# Altium integrated library Linear Technology Power Management LDO Linear Regulators.IntLib: 2339 symbols (part 3 of 131)
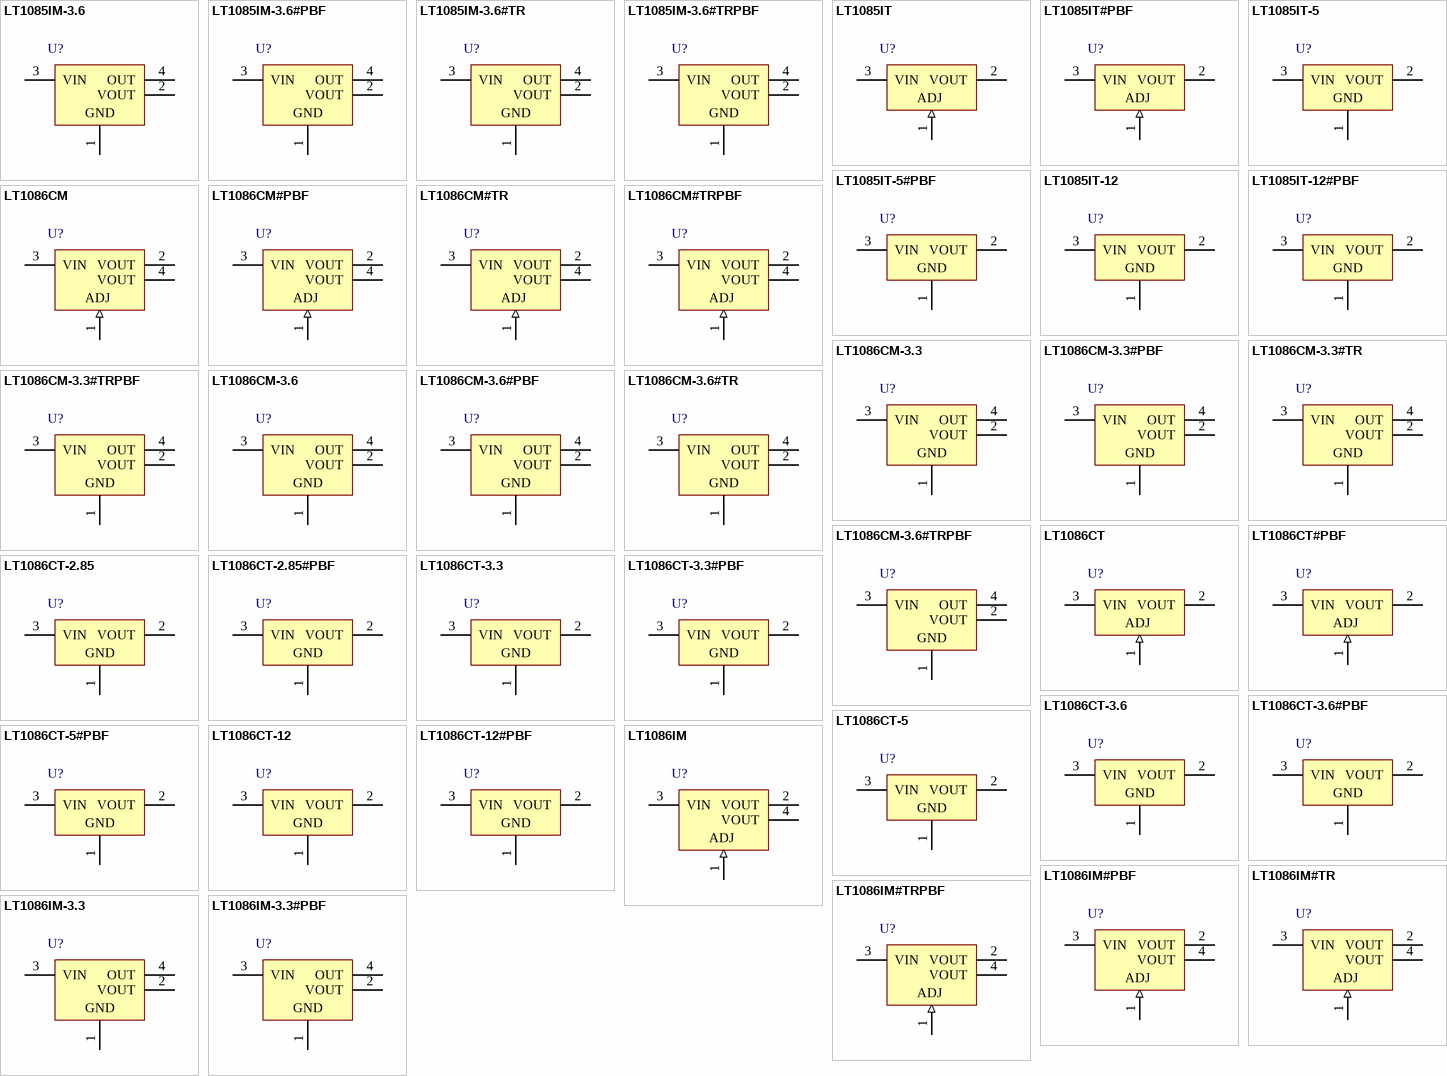
[diagram p71: symbols LT1085IM-3.6 to LT1086IM-3.3#PBF]

## LT1086IM-3.3#PBF
designator U?
1.5 A Low Dropout Positive Regulator, 2.55 to 25 V Vin, 3.3 V Vout, 3-pin DPAK (M-3), -40 to 150 degC, Pb-Free; Manufacturer: Linear Technology; PartNumber: LT1086IM-3.3#PBF; Discrete Pass Element: no; Dropout Voltage(V): 1.3; Iout(mA): 1500; Isupply(mA): 5; Number of Outputs: 1; Output Voltage: 3.3 V; PSRR(dB): 72; Vin Max(V): 25; Vin Min(V): 2.55; DatasheetVersion: Rev. F; PackageVersion: Rev. F, 05/2012; PackageReference: M-3; PackageDescription: 3-Pin Plastic DD Pak, Body 10.2235 x 8.89 mm, Pitch 2.54 mm; Supplier 1: Digi-Key; Supplier Part Number 1: LT1086IM-3.3#PBF-ND; Supplier 2: Farnell; Supplier Part Number 2: 1663352; Supplier 3: Newark; Supplier Part Number 3: 57M1559; RoHS: TRUE; Mounting Technology: Surface Mount; ComponentLink1Description: Manufacturer URL; ComponentLink1URL: http://www.linear.com/; ComponentLink2Description: Datasheet; ComponentLink2URL: http://cds.linear.com/docs/en/datasheet/1086ffs.pdf; ComponentLink3Description: Package Specification; ComponentLink3URL: http://cds.linear.com/docs/en/packaging/05081460_F_M.pdf
footprint LT-M-3_N (DPAK, 3-Leads, Body 10.55x9.4mm, Pitch 2.54mm, IPC Medium Density)
footprint LT-M-3_L (DPAK, 3-Leads, Body 10.55x9.4mm, Pitch 2.54mm, IPC High Density)
footprint LT-M-3_M (DPAK, 3-Leads, Body 10.55x9.4mm, Pitch 2.54mm, IPC Low Density)
pins: 1 GND (power), 2 VOUT (power), 3 VIN (power), 4 OUT (power)

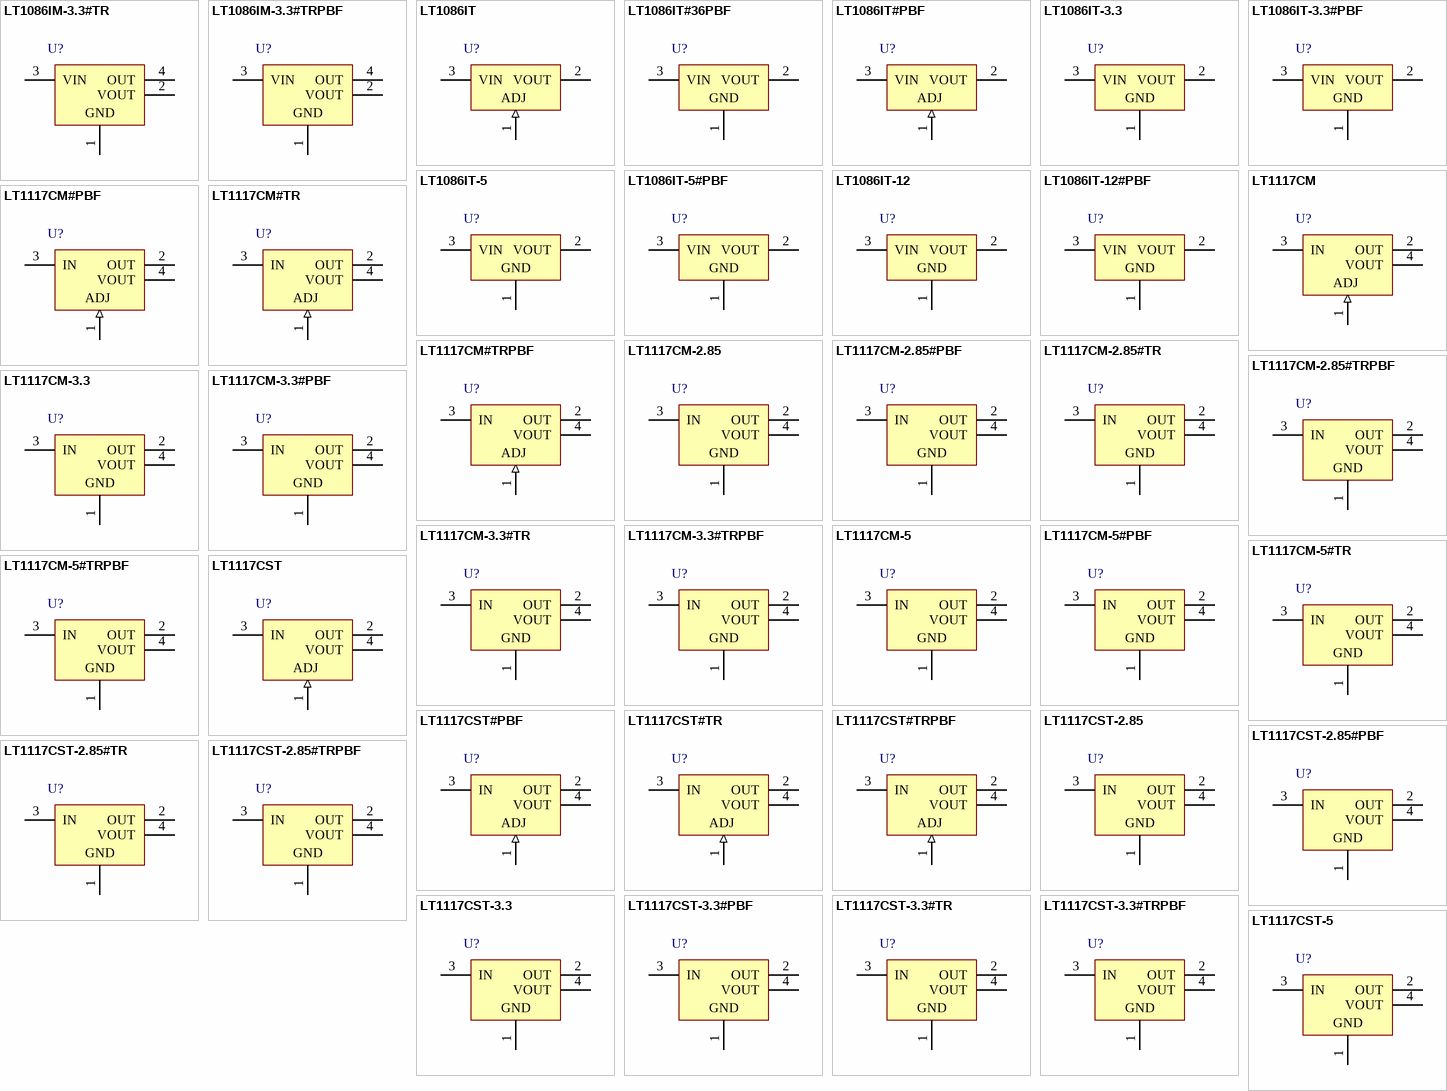
[diagram p2: symbols LT1086IM-3.3#TR to LT1117CST-5]

## LT1086IM-3.3#TR
designator U?
1.5 A Low Dropout Positive Regulator, 2.55 to 25 V Vin, 3.3 V Vout, 3-pin DPAK (M-3), -40 to 150 degC, Tape and Reel; Manufacturer: Linear Technology; PartNumber: LT1086IM-3.3#TR; Discrete Pass Element: no; Dropout Voltage(V): 1.3; Iout(mA): 1500; Isupply(mA): 5; Number of Outputs: 1; Output Voltage: 3.3 V; PSRR(dB): 72; Vin Max(V): 25; Vin Min(V): 2.55; DatasheetVersion: Rev. F; PackageVersion: Rev. F, 05/2012; PackageReference: M-3; PackageDescription: 3-Pin Plastic DD Pak, Body 10.2235 x 8.89 mm, Pitch 2.54 mm; Supplier 1: Digi-Key; Supplier Part Number 1: LT1086IM-3.3#TR-ND; Supplier 2: Newark; Supplier Part Number 2: 57M1560; Packing: Tape and Reel; RoHS: FALSE; Mounting Technology: Surface Mount; ComponentLink1Description: Manufacturer URL; ComponentLink1URL: http://www.linear.com/; ComponentLink2Description: Datasheet; ComponentLink2URL: http://cds.linear.com/docs/en/datasheet/1086ffs.pdf; ComponentLink3Description: Package Specification; ComponentLink3URL: http://cds.linear.com/docs/en/packaging/05081460_F_M.pdf
footprint LT-M-3_N (DPAK, 3-Leads, Body 10.55x9.4mm, Pitch 2.54mm, IPC Medium Density)
footprint LT-M-3_L (DPAK, 3-Leads, Body 10.55x9.4mm, Pitch 2.54mm, IPC High Density)
footprint LT-M-3_M (DPAK, 3-Leads, Body 10.55x9.4mm, Pitch 2.54mm, IPC Low Density)
pins: 1 GND (power), 2 VOUT (power), 3 VIN (power), 4 OUT (power)

## LT1086IM-3.3#TRPBF
designator U?
1.5 A Low Dropout Positive Regulator, 2.55 to 25 V Vin, 3.3 V Vout, 3-pin DPAK (M-3), -40 to 150 degC, Pb-Free, Tape and Reel; Manufacturer: Linear Technology; PartNumber: LT1086IM-3.3#TRPBF; Discrete Pass Element: no; Dropout Voltage(V): 1.3; Iout(mA): 1500; Isupply(mA): 5; Number of Outputs: 1; Output Voltage: 3.3 V; PSRR(dB): 72; Vin Max(V): 25; Vin Min(V): 2.55; DatasheetVersion: Rev. F; PackageVersion: Rev. F, 05/2012; PackageReference: M-3; PackageDescription: 3-Pin Plastic DD Pak, Body 10.2235 x 8.89 mm, Pitch 2.54 mm; Supplier 1: Digi-Key; Supplier Part Number 1: LT1086IM-3.3#TRPBF-ND; Supplier 2: Newark; Supplier Part Number 2: 57M1561; Packing: Tape and Reel; RoHS: TRUE; Mounting Technology: Surface Mount; ComponentLink1Description: Manufacturer URL; ComponentLink1URL: http://www.linear.com/; ComponentLink2Description: Datasheet; ComponentLink2URL: http://cds.linear.com/docs/en/datasheet/1086ffs.pdf; ComponentLink3Description: Package Specification; ComponentLink3URL: http://cds.linear.com/docs/en/packaging/05081460_F_M.pdf
footprint LT-M-3_N (DPAK, 3-Leads, Body 10.55x9.4mm, Pitch 2.54mm, IPC Medium Density)
footprint LT-M-3_L (DPAK, 3-Leads, Body 10.55x9.4mm, Pitch 2.54mm, IPC High Density)
footprint LT-M-3_M (DPAK, 3-Leads, Body 10.55x9.4mm, Pitch 2.54mm, IPC Low Density)
pins: 1 GND (power), 2 VOUT (power), 3 VIN (power), 4 OUT (power)

## LT1086IT
designator U?
1.5 A Low Dropout Positive Regulator, 2.55 to 25 V Vin, Adjustable Vout, 3-pin FM (T-3), -40 to 150 degC; Manufacturer: Linear Technology; PartNumber: LT1086IT; Discrete Pass Element: no; Dropout Voltage(V): 1.3; Iout(mA): 1500; Isupply(mA): 5; Number of Outputs: 1; Output Voltage: Adj; PSRR(dB): 75; Vin Max(V): 25; Vin Min(V): 2.55; Vout Max(V): 23.5; Vout Min(V): 1.25; DatasheetVersion: Rev. F; PackageVersion: Jun-10; PackageReference: T-3; PackageDescription: 3-Pin Plastic TO-220, Body 10.2235 x 4.3815 mm, Pitch 2.54 mm; Supplier 1: Digi-Key; Supplier Part Number 1: LT1086IT-ND; RoHS: FALSE; Mounting Technology: Through Hole; ComponentLink1Description: Manufacturer URL; ComponentLink1URL: http://www.linear.com/; ComponentLink2Description: Datasheet; ComponentLink2URL: http://cds.linear.com/docs/en/datasheet/1086ffs.pdf; ComponentLink3Description: Package Specification; ComponentLink3URL: http://cds.linear.com/docs/en/packaging/TO-220_3_05-08-1420.pdf
footprint LT-T-3 (T, 3-Leads, Body 10.55x4.6mm, Pitch 2.54mm)
pins: 1 ADJ (in), 2 VOUT (power), 3 VIN (power)

## LT1086IT#36PBF
designator U?
1.5 A Low Dropout Positive Regulator, 2.55 to 25 V Vin, Adjustable Vout, 3-pin FM (T-3), -40 to 150 degC, Pb-Free; Manufacturer: Linear Technology; PartNumber: LT1086IT#36PBF; Discrete Pass Element: no; Dropout Voltage(V): 1.3; Iout(mA): 1500; Isupply(mA): 5; Number of Outputs: 1; Output Voltage: Adj; PSRR(dB): 75; Vin Max(V): 25; Vin Min(V): 2.55; Vout Max(V): 23.5; Vout Min(V): 1.25; DatasheetVersion: Rev. F; PackageVersion: Jun-10; PackageReference: T-3; PackageDescription: 3-Pin Plastic TO-220, Body 10.2235 x 4.3815 mm, Pitch 2.54 mm; Supplier 1: Digi-Key; Supplier Part Number 1: LT1086IT#36PBF-ND; RoHS: TRUE; Mounting Technology: Through Hole; ComponentLink1Description: Manufacturer URL; ComponentLink1URL: http://www.linear.com/; ComponentLink2Description: Datasheet; ComponentLink2URL: http://cds.linear.com/docs/en/datasheet/1086ffs.pdf; ComponentLink3Description: Package Specification; ComponentLink3URL: http://cds.linear.com/docs/en/packaging/TO-220_3_05-08-1420.pdf
footprint LT-T-3 (T, 3-Leads, Body 10.55x4.6mm, Pitch 2.54mm)
pins: 1 GND (power), 2 VOUT (power), 3 VIN (power)

## LT1086IT#PBF
designator U?
1.5 A Low Dropout Positive Regulator, 2.55 to 25 V Vin, Adjustable Vout, 3-pin FM (T-3), -40 to 150 degC, Pb-Free; Manufacturer: Linear Technology; PartNumber: LT1086IT#PBF; Discrete Pass Element: no; Dropout Voltage(V): 1.3; Iout(mA): 1500; Isupply(mA): 5; Number of Outputs: 1; Output Voltage: Adj; PSRR(dB): 75; Vin Max(V): 25; Vin Min(V): 2.55; Vout Max(V): 23.5; Vout Min(V): 1.25; DatasheetVersion: Rev. F; PackageVersion: Jun-10; PackageReference: T-3; PackageDescription: 3-Pin Plastic TO-220, Body 10.2235 x 4.3815 mm, Pitch 2.54 mm; Supplier 1: Digi-Key; Supplier Part Number 1: LT1086IT#PBF-ND; Supplier 2: Farnell; Supplier Part Number 2: 1500501; Supplier 3: Newark; Supplier Part Number 3: 57M1572; RoHS: TRUE; Mounting Technology: Through Hole; ComponentLink1Description: Manufacturer URL; ComponentLink1URL: http://www.linear.com/; ComponentLink2Description: Datasheet; ComponentLink2URL: http://cds.linear.com/docs/en/datasheet/1086ffs.pdf; ComponentLink3Description: Package Specification; ComponentLink3URL: http://cds.linear.com/docs/en/packaging/TO-220_3_05-08-1420.pdf
footprint LT-T-3 (T, 3-Leads, Body 10.55x4.6mm, Pitch 2.54mm)
pins: 1 ADJ (in), 2 VOUT (power), 3 VIN (power)

## LT1086IT-3.3
designator U?
1.5 A Low Dropout Positive Regulator, 2.55 to 25 V Vin, 3.3 V Vout, 3-pin FM (T-3), -40 to 150 degC; Manufacturer: Linear Technology; PartNumber: LT1086IT-3.3; Discrete Pass Element: no; Dropout Voltage(V): 1.3; Iout(mA): 1500; Isupply(mA): 5; Number of Outputs: 1; Output Voltage: 3.3 V; PSRR(dB): 72; Vin Max(V): 25; Vin Min(V): 2.55; DatasheetVersion: Rev. F; PackageVersion: Jun-10; PackageReference: T-3; PackageDescription: 3-Pin Plastic TO-220, Body 10.2235 x 4.3815 mm, Pitch 2.54 mm; Supplier 1: Digi-Key; Supplier Part Number 1: LT1086IT-3.3-ND; RoHS: FALSE; Mounting Technology: Through Hole; ComponentLink1Description: Manufacturer URL; ComponentLink1URL: http://www.linear.com/; ComponentLink2Description: Datasheet; ComponentLink2URL: http://cds.linear.com/docs/en/datasheet/1086ffs.pdf; ComponentLink3Description: Package Specification; ComponentLink3URL: http://cds.linear.com/docs/en/packaging/TO-220_3_05-08-1420.pdf
footprint LT-T-3 (T, 3-Leads, Body 10.55x4.6mm, Pitch 2.54mm)
pins: 1 GND (power), 2 VOUT (power), 3 VIN (power)

## LT1086IT-3.3#PBF
designator U?
1.5 A Low Dropout Positive Regulator, 2.55 to 25 V Vin, 3.3 V Vout, 3-pin FM (T-3), -40 to 150 degC, Pb-Free; Manufacturer: Linear Technology; PartNumber: LT1086IT-3.3#PBF; Discrete Pass Element: no; Dropout Voltage(V): 1.3; Iout(mA): 1500; Isupply(mA): 5; Number of Outputs: 1; Output Voltage: 3.3 V; PSRR(dB): 72; Vin Max(V): 25; Vin Min(V): 2.55; DatasheetVersion: Rev. F; PackageVersion: Jun-10; PackageReference: T-3; PackageDescription: 3-Pin Plastic TO-220, Body 10.2235 x 4.3815 mm, Pitch 2.54 mm; Supplier 1: Digi-Key; Supplier Part Number 1: LT1086IT-3.3#PBF-ND; RoHS: TRUE; Mounting Technology: Through Hole; ComponentLink1Description: Manufacturer URL; ComponentLink1URL: http://www.linear.com/; ComponentLink2Description: Datasheet; ComponentLink2URL: http://cds.linear.com/docs/en/datasheet/1086ffs.pdf; ComponentLink3Description: Package Specification; ComponentLink3URL: http://cds.linear.com/docs/en/packaging/TO-220_3_05-08-1420.pdf
footprint LT-T-3 (T, 3-Leads, Body 10.55x4.6mm, Pitch 2.54mm)
pins: 1 GND (power), 2 VOUT (power), 3 VIN (power)

## LT1086IT-5
designator U?
1.5 A Low Dropout Positive Regulator, 2.55 to 25 V Vin, 5 V Vout, 3-pin FM (T-3), -40 to 150 degC; Manufacturer: Linear Technology; PartNumber: LT1086IT-5; Discrete Pass Element: no; Dropout Voltage(V): 1.3; Iout(mA): 1500; Isupply(mA): 5; Number of Outputs: 1; Output Voltage: 5 V; PSRR(dB): 68; Vin Max(V): 25; Vin Min(V): 2.55; DatasheetVersion: Rev. F; PackageVersion: Jun-10; PackageReference: T-3; PackageDescription: 3-Pin Plastic TO-220, Body 10.2235 x 4.3815 mm, Pitch 2.54 mm; Supplier 1: Digi-Key; Supplier Part Number 1: LT1086IT-5-ND; Supplier 2: Newark; Supplier Part Number 2: 57M1570; RoHS: FALSE; Mounting Technology: Through Hole; ComponentLink1Description: Manufacturer URL; ComponentLink1URL: http://www.linear.com/; ComponentLink2Description: Datasheet; ComponentLink2URL: http://cds.linear.com/docs/en/datasheet/1086ffs.pdf; ComponentLink3Description: Package Specification; ComponentLink3URL: http://cds.linear.com/docs/en/packaging/TO-220_3_05-08-1420.pdf
footprint LT-T-3 (T, 3-Leads, Body 10.55x4.6mm, Pitch 2.54mm)
pins: 1 GND (power), 2 VOUT (power), 3 VIN (power)

## LT1086IT-5#PBF
designator U?
1.5 A Low Dropout Positive Regulator, 2.55 to 25 V Vin, 5 V Vout, 3-pin FM (T-3), -40 to 150 degC, Pb-Free; Manufacturer: Linear Technology; PartNumber: LT1086IT-5#PBF; Discrete Pass Element: no; Dropout Voltage(V): 1.3; Iout(mA): 1500; Isupply(mA): 5; Number of Outputs: 1; Output Voltage: 5 V; PSRR(dB): 68; Vin Max(V): 25; Vin Min(V): 2.55; DatasheetVersion: Rev. F; PackageVersion: Jun-10; PackageReference: T-3; PackageDescription: 3-Pin Plastic TO-220, Body 10.2235 x 4.3815 mm, Pitch 2.54 mm; Supplier 1: Digi-Key; Supplier Part Number 1: LT1086IT-5#PBF-ND; Supplier 2: Newark; Supplier Part Number 2: 57M1571; RoHS: TRUE; Mounting Technology: Through Hole; ComponentLink1Description: Manufacturer URL; ComponentLink1URL: http://www.linear.com/; ComponentLink2Description: Datasheet; ComponentLink2URL: http://cds.linear.com/docs/en/datasheet/1086ffs.pdf; ComponentLink3Description: Package Specification; ComponentLink3URL: http://cds.linear.com/docs/en/packaging/TO-220_3_05-08-1420.pdf
footprint LT-T-3 (T, 3-Leads, Body 10.55x4.6mm, Pitch 2.54mm)
pins: 1 GND (power), 2 VOUT (power), 3 VIN (power)

## LT1086IT-12
designator U?
1.5 A Low Dropout Positive Regulator, 2.55 to 25 V Vin, 12 V Vout, 3-pin FM (T-3), -40 to 150 degC; Manufacturer: Linear Technology; PartNumber: LT1086IT-12; Discrete Pass Element: no; Dropout Voltage(V): 1.3; Iout(mA): 1500; Isupply(mA): 5; Number of Outputs: 1; Output Voltage: 12 V; PSRR(dB): 60; Vin Max(V): 25; Vin Min(V): 2.55; DatasheetVersion: Rev. F; PackageVersion: Jun-10; PackageReference: T-3; PackageDescription: 3-Pin Plastic TO-220, Body 10.2235 x 4.3815 mm, Pitch 2.54 mm; Supplier 1: Digi-Key; Supplier Part Number 1: LT1086IT-12-ND; Supplier 2: Newark; Supplier Part Number 2: 57M1566; RoHS: FALSE; Mounting Technology: Through Hole; ComponentLink1Description: Manufacturer URL; ComponentLink1URL: http://www.linear.com/; ComponentLink2Description: Datasheet; ComponentLink2URL: http://cds.linear.com/docs/en/datasheet/1086ffs.pdf; ComponentLink3Description: Package Specification; ComponentLink3URL: http://cds.linear.com/docs/en/packaging/TO-220_3_05-08-1420.pdf
footprint LT-T-3 (T, 3-Leads, Body 10.55x4.6mm, Pitch 2.54mm)
pins: 1 GND (power), 2 VOUT (power), 3 VIN (power)

## LT1086IT-12#PBF
designator U?
1.5 A Low Dropout Positive Regulator, 2.55 to 25 V Vin, 12 V Vout, 3-pin FM (T-3), -40 to 150 degC, Pb-Free; Manufacturer: Linear Technology; PartNumber: LT1086IT-12#PBF; Discrete Pass Element: no; Dropout Voltage(V): 1.3; Iout(mA): 1500; Isupply(mA): 5; Number of Outputs: 1; Output Voltage: 12 V; PSRR(dB): 60; Vin Max(V): 25; Vin Min(V): 2.55; DatasheetVersion: Rev. F; PackageVersion: Jun-10; PackageReference: T-3; PackageDescription: 3-Pin Plastic TO-220, Body 10.2235 x 4.3815 mm, Pitch 2.54 mm; Supplier 1: Digi-Key; Supplier Part Number 1: LT1086IT-12#PBF-ND; Supplier 2: Newark; Supplier Part Number 2: 57M1567; RoHS: TRUE; Mounting Technology: Through Hole; ComponentLink1Description: Manufacturer URL; ComponentLink1URL: http://www.linear.com/; ComponentLink2Description: Datasheet; ComponentLink2URL: http://cds.linear.com/docs/en/datasheet/1086ffs.pdf; ComponentLink3Description: Package Specification; ComponentLink3URL: http://cds.linear.com/docs/en/packaging/TO-220_3_05-08-1420.pdf
footprint LT-T-3 (T, 3-Leads, Body 10.55x4.6mm, Pitch 2.54mm)
pins: 1 GND (power), 2 VOUT (power), 3 VIN (power)

## LT1117CM
designator U?
0.8 A Low Dropout Positive Regulator, 2.45 to 15 V Vin, Adjustable Vout, 3-pin DPAK (M-3), 0 to 125 degC; Manufacturer: Linear Technology; PartNumber: LT1117CM; Discrete Pass Element: no; Dropout Voltage(V): 1.1; Iout(mA): 800; Number of Outputs: 1; Output Voltage: Adj; PSRR(dB): 75; Vin Max(V): 15; Vin Min(V): 2.45; DatasheetVersion: Rev. D; PackageVersion: Rev. F, 05/2012; PackageReference: M-3; PackageDescription: 3-Pin Plastic DD Pak, Body 10.2235 x 8.89 mm, Pitch 2.54 mm; Supplier 1: Digi-Key; Supplier Part Number 1: LT1117CM-ND; Supplier 2: Newark; Supplier Part Number 2: 57M1776; RoHS: FALSE; Mounting Technology: Surface Mount; ComponentLink1Description: Manufacturer URL; ComponentLink1URL: http://www.linear.com/; ComponentLink2Description: Datasheet; ComponentLink2URL: http://cds.linear.com/docs/en/datasheet/1117fd.pdf; ComponentLink3Description: Package Specification; ComponentLink3URL: http://cds.linear.com/docs/en/packaging/05081460_F_M.pdf
footprint LT-M-3_N (DPAK, 3-Leads, Body 10.55x9.4mm, Pitch 2.54mm, IPC Medium Density)
footprint LT-M-3_L (DPAK, 3-Leads, Body 10.55x9.4mm, Pitch 2.54mm, IPC High Density)
footprint LT-M-3_M (DPAK, 3-Leads, Body 10.55x9.4mm, Pitch 2.54mm, IPC Low Density)
pins: 1 ADJ (in), 2 OUT (power), 3 IN (power), 4 VOUT (power)

## LT1117CM#PBF
designator U?
0.8 A Low Dropout Positive Regulator, 2.45 to 15 V Vin, Adjustable Vout, 3-pin DPAK (M-3), 0 to 125 degC, Pb-Free; Manufacturer: Linear Technology; PartNumber: LT1117CM#PBF; Discrete Pass Element: no; Dropout Voltage(V): 1.1; Iout(mA): 800; Number of Outputs: 1; Output Voltage: Adj; PSRR(dB): 75; Vin Max(V): 15; Vin Min(V): 2.45; DatasheetVersion: Rev. D; PackageVersion: Rev. F, 05/2012; PackageReference: M-3; PackageDescription: 3-Pin Plastic DD Pak, Body 10.2235 x 8.89 mm, Pitch 2.54 mm; Supplier 1: Digi-Key; Supplier Part Number 1: LT1117CM#PBF-ND; Supplier 2: Farnell; Supplier Part Number 2: 1273562; Supplier 3: Newark; Supplier Part Number 3: 57M1789; RoHS: TRUE; Mounting Technology: Surface Mount; ComponentLink1Description: Manufacturer URL; ComponentLink1URL: http://www.linear.com/; ComponentLink2Description: Datasheet; ComponentLink2URL: http://cds.linear.com/docs/en/datasheet/1117fd.pdf; ComponentLink3Description: Package Specification; ComponentLink3URL: http://cds.linear.com/docs/en/packaging/05081460_F_M.pdf
footprint LT-M-3_N (DPAK, 3-Leads, Body 10.55x9.4mm, Pitch 2.54mm, IPC Medium Density)
footprint LT-M-3_L (DPAK, 3-Leads, Body 10.55x9.4mm, Pitch 2.54mm, IPC High Density)
footprint LT-M-3_M (DPAK, 3-Leads, Body 10.55x9.4mm, Pitch 2.54mm, IPC Low Density)
pins: 1 ADJ (in), 2 OUT (power), 3 IN (power), 4 VOUT (power)

## LT1117CM#TR
designator U?
0.8 A Low Dropout Positive Regulator, 2.45 to 15 V Vin, Adjustable Vout, 3-pin DPAK (M-3), 0 to 125 degC, Tape and Reel; Manufacturer: Linear Technology; PartNumber: LT1117CM#TR; Discrete Pass Element: no; Dropout Voltage(V): 1.1; Iout(mA): 800; Number of Outputs: 1; Output Voltage: Adj; PSRR(dB): 75; Vin Max(V): 15; Vin Min(V): 2.45; DatasheetVersion: Rev. D; PackageVersion: Rev. F, 05/2012; PackageReference: M-3; PackageDescription: 3-Pin Plastic DD Pak, Body 10.2235 x 8.89 mm, Pitch 2.54 mm; Supplier 1: Digi-Key; Supplier Part Number 1: LT1117CM#TR-ND; Packing: Tape and Reel; RoHS: FALSE; Mounting Technology: Surface Mount; ComponentLink1Description: Manufacturer URL; ComponentLink1URL: http://www.linear.com/; ComponentLink2Description: Datasheet; ComponentLink2URL: http://cds.linear.com/docs/en/datasheet/1117fd.pdf; ComponentLink3Description: Package Specification; ComponentLink3URL: http://cds.linear.com/docs/en/packaging/05081460_F_M.pdf
footprint LT-M-3_N (DPAK, 3-Leads, Body 10.55x9.4mm, Pitch 2.54mm, IPC Medium Density)
footprint LT-M-3_L (DPAK, 3-Leads, Body 10.55x9.4mm, Pitch 2.54mm, IPC High Density)
footprint LT-M-3_M (DPAK, 3-Leads, Body 10.55x9.4mm, Pitch 2.54mm, IPC Low Density)
pins: 1 ADJ (in), 2 OUT (power), 3 IN (power), 4 VOUT (power)

## LT1117CM#TRPBF
designator U?
0.8 A Low Dropout Positive Regulator, 2.45 to 15 V Vin, Adjustable Vout, 3-pin DPAK (M-3), 0 to 125 degC, Pb-Free, Tape and Reel; Manufacturer: Linear Technology; PartNumber: LT1117CM#TRPBF; Discrete Pass Element: no; Dropout Voltage(V): 1.1; Iout(mA): 800; Number of Outputs: 1; Output Voltage: Adj; PSRR(dB): 75; Vin Max(V): 15; Vin Min(V): 2.45; DatasheetVersion: Rev. D; PackageVersion: Rev. F, 05/2012; PackageReference: M-3; PackageDescription: 3-Pin Plastic DD Pak, Body 10.2235 x 8.89 mm, Pitch 2.54 mm; Supplier 1: Digi-Key; Supplier Part Number 1: LT1117CM#TRPBF-ND; Supplier 2: Newark; Supplier Part Number 2: 57M1791; Packing: Tape and Reel; RoHS: TRUE; Mounting Technology: Surface Mount; ComponentLink1Description: Manufacturer URL; ComponentLink1URL: http://www.linear.com/; ComponentLink2Description: Datasheet; ComponentLink2URL: http://cds.linear.com/docs/en/datasheet/1117fd.pdf; ComponentLink3Description: Package Specification; ComponentLink3URL: http://cds.linear.com/docs/en/packaging/05081460_F_M.pdf
footprint LT-M-3_N (DPAK, 3-Leads, Body 10.55x9.4mm, Pitch 2.54mm, IPC Medium Density)
footprint LT-M-3_L (DPAK, 3-Leads, Body 10.55x9.4mm, Pitch 2.54mm, IPC High Density)
footprint LT-M-3_M (DPAK, 3-Leads, Body 10.55x9.4mm, Pitch 2.54mm, IPC Low Density)
pins: 1 ADJ (in), 2 OUT (power), 3 IN (power), 4 VOUT (power)

## LT1117CM-2.85
designator U?
0.8 A Low Dropout Positive Regulator, 2.45 to 15 V Vin, 2.85 V Vout, 3-pin DPAK (M-3), 0 to 125 degC; Manufacturer: Linear Technology; PartNumber: LT1117CM-2.85; Discrete Pass Element: no; Dropout Voltage(V): 1.1; Iout(mA): 800; Isupply(mA): 5; Number of Outputs: 1; Output Voltage: 2.85 V; PSRR(dB): 75; Vin Max(V): 15; Vin Min(V): 2.45; DatasheetVersion: Rev. D; PackageVersion: Rev. F, 05/2012; PackageReference: M-3; PackageDescription: 3-Pin Plastic DD Pak, Body 10.2235 x 8.89 mm, Pitch 2.54 mm; Supplier 1: Digi-Key; Supplier Part Number 1: LT1117CM-2.85-ND; RoHS: FALSE; Mounting Technology: Surface Mount; ComponentLink1Description: Manufacturer URL; ComponentLink1URL: http://www.linear.com/; ComponentLink2Description: Datasheet; ComponentLink2URL: http://cds.linear.com/docs/en/datasheet/1117fd.pdf; ComponentLink3Description: Package Specification; ComponentLink3URL: http://cds.linear.com/docs/en/packaging/05081460_F_M.pdf
footprint LT-M-3_N (DPAK, 3-Leads, Body 10.55x9.4mm, Pitch 2.54mm, IPC Medium Density)
footprint LT-M-3_L (DPAK, 3-Leads, Body 10.55x9.4mm, Pitch 2.54mm, IPC High Density)
footprint LT-M-3_M (DPAK, 3-Leads, Body 10.55x9.4mm, Pitch 2.54mm, IPC Low Density)
pins: 1 GND (power), 2 OUT (power), 3 IN (power), 4 VOUT (power)

## LT1117CM-2.85#PBF
designator U?
0.8 A Low Dropout Positive Regulator, 2.45 to 15 V Vin, 2.85 V Vout, 3-pin DPAK (M-3), 0 to 125 degC, Pb-Free; Manufacturer: Linear Technology; PartNumber: LT1117CM-2.85#PBF; Discrete Pass Element: no; Dropout Voltage(V): 1.1; Iout(mA): 800; Isupply(mA): 5; Number of Outputs: 1; Output Voltage: 2.85 V; PSRR(dB): 75; Vin Max(V): 15; Vin Min(V): 2.45; DatasheetVersion: Rev. D; PackageVersion: Rev. F, 05/2012; PackageReference: M-3; PackageDescription: 3-Pin Plastic DD Pak, Body 10.2235 x 8.89 mm, Pitch 2.54 mm; Supplier 1: Digi-Key; Supplier Part Number 1: LT1117CM-2.85#PBF-ND; RoHS: TRUE; Mounting Technology: Surface Mount; ComponentLink1Description: Manufacturer URL; ComponentLink1URL: http://www.linear.com/; ComponentLink2Description: Datasheet; ComponentLink2URL: http://cds.linear.com/docs/en/datasheet/1117fd.pdf; ComponentLink3Description: Package Specification; ComponentLink3URL: http://cds.linear.com/docs/en/packaging/05081460_F_M.pdf
footprint LT-M-3_N (DPAK, 3-Leads, Body 10.55x9.4mm, Pitch 2.54mm, IPC Medium Density)
footprint LT-M-3_L (DPAK, 3-Leads, Body 10.55x9.4mm, Pitch 2.54mm, IPC High Density)
footprint LT-M-3_M (DPAK, 3-Leads, Body 10.55x9.4mm, Pitch 2.54mm, IPC Low Density)
pins: 1 GND (power), 2 OUT (power), 3 IN (power), 4 VOUT (power)

## LT1117CM-2.85#TR
designator U?
0.8 A Low Dropout Positive Regulator, 2.45 to 15 V Vin, 2.85 V Vout, 3-pin DPAK (M-3), 0 to 125 degC, Tape and Reel; Manufacturer: Linear Technology; PartNumber: LT1117CM-2.85#TR; Discrete Pass Element: no; Dropout Voltage(V): 1.1; Iout(mA): 800; Isupply(mA): 5; Number of Outputs: 1; Output Voltage: 2.85 V; PSRR(dB): 75; Vin Max(V): 15; Vin Min(V): 2.45; DatasheetVersion: Rev. D; PackageVersion: Rev. F, 05/2012; PackageReference: M-3; PackageDescription: 3-Pin Plastic DD Pak, Body 10.2235 x 8.89 mm, Pitch 2.54 mm; Supplier 1: Digi-Key; Supplier Part Number 1: LT1117CM-2.85#TR-ND; Packing: Tape and Reel; RoHS: FALSE; Mounting Technology: Surface Mount; ComponentLink1Description: Manufacturer URL; ComponentLink1URL: http://www.linear.com/; ComponentLink2Description: Datasheet; ComponentLink2URL: http://cds.linear.com/docs/en/datasheet/1117fd.pdf; ComponentLink3Description: Package Specification; ComponentLink3URL: http://cds.linear.com/docs/en/packaging/05081460_F_M.pdf
footprint LT-M-3_N (DPAK, 3-Leads, Body 10.55x9.4mm, Pitch 2.54mm, IPC Medium Density)
footprint LT-M-3_L (DPAK, 3-Leads, Body 10.55x9.4mm, Pitch 2.54mm, IPC High Density)
footprint LT-M-3_M (DPAK, 3-Leads, Body 10.55x9.4mm, Pitch 2.54mm, IPC Low Density)
pins: 1 GND (power), 2 OUT (power), 3 IN (power), 4 VOUT (power)

## LT1117CM-2.85#TRPBF
designator U?
0.8 A Low Dropout Positive Regulator, 2.45 to 15 V Vin, 2.85 V Vout, 3-pin DPAK (M-3), 0 to 125 degC, Pb-Free, Tape and Reel; Manufacturer: Linear Technology; PartNumber: LT1117CM-2.85#TRPBF; Discrete Pass Element: no; Dropout Voltage(V): 1.1; Iout(mA): 800; Isupply(mA): 5; Number of Outputs: 1; Output Voltage: 2.85 V; PSRR(dB): 75; Vin Max(V): 15; Vin Min(V): 2.45; DatasheetVersion: Rev. D; PackageVersion: Rev. F, 05/2012; PackageReference: M-3; PackageDescription: 3-Pin Plastic DD Pak, Body 10.2235 x 8.89 mm, Pitch 2.54 mm; Supplier 1: Digi-Key; Supplier Part Number 1: LT1117CM-2.85#TRPBF-ND; Packing: Tape and Reel; RoHS: TRUE; Mounting Technology: Surface Mount; ComponentLink1Description: Manufacturer URL; ComponentLink1URL: http://www.linear.com/; ComponentLink2Description: Datasheet; ComponentLink2URL: http://cds.linear.com/docs/en/datasheet/1117fd.pdf; ComponentLink3Description: Package Specification; ComponentLink3URL: http://cds.linear.com/docs/en/packaging/05081460_F_M.pdf
footprint LT-M-3_N (DPAK, 3-Leads, Body 10.55x9.4mm, Pitch 2.54mm, IPC Medium Density)
footprint LT-M-3_L (DPAK, 3-Leads, Body 10.55x9.4mm, Pitch 2.54mm, IPC High Density)
footprint LT-M-3_M (DPAK, 3-Leads, Body 10.55x9.4mm, Pitch 2.54mm, IPC Low Density)
pins: 1 GND (power), 2 OUT (power), 3 IN (power), 4 VOUT (power)

## LT1117CM-3.3
designator U?
0.8 A Low Dropout Positive Regulator, 2.45 to 15 V Vin, 3.3 V Vout, 3-pin DPAK (M-3), 0 to 125 degC; Manufacturer: Linear Technology; PartNumber: LT1117CM-3.3; Discrete Pass Element: no; Dropout Voltage(V): 1.1; Iout(mA): 800; Isupply(mA): 5; Number of Outputs: 1; Output Voltage: 3.3 V; PSRR(dB): 75; Vin Max(V): 15; Vin Min(V): 2.45; DatasheetVersion: Rev. D; PackageVersion: Rev. F, 05/2012; PackageReference: M-3; PackageDescription: 3-Pin Plastic DD Pak, Body 10.2235 x 8.89 mm, Pitch 2.54 mm; Supplier 1: Digi-Key; Supplier Part Number 1: LT1117CM-3.3-ND; RoHS: FALSE; Mounting Technology: Surface Mount; ComponentLink1Description: Manufacturer URL; ComponentLink1URL: http://www.linear.com/; ComponentLink2Description: Datasheet; ComponentLink2URL: http://cds.linear.com/docs/en/datasheet/1117fd.pdf; ComponentLink3Description: Package Specification; ComponentLink3URL: http://cds.linear.com/docs/en/packaging/05081460_F_M.pdf
footprint LT-M-3_N (DPAK, 3-Leads, Body 10.55x9.4mm, Pitch 2.54mm, IPC Medium Density)
footprint LT-M-3_L (DPAK, 3-Leads, Body 10.55x9.4mm, Pitch 2.54mm, IPC High Density)
footprint LT-M-3_M (DPAK, 3-Leads, Body 10.55x9.4mm, Pitch 2.54mm, IPC Low Density)
pins: 1 GND (power), 2 OUT (power), 3 IN (power), 4 VOUT (power)

## LT1117CM-3.3#PBF
designator U?
0.8 A Low Dropout Positive Regulator, 2.45 to 15 V Vin, 3.3 V Vout, 3-pin DPAK (M-3), 0 to 125 degC, Pb-Free; Manufacturer: Linear Technology; PartNumber: LT1117CM-3.3#PBF; Discrete Pass Element: no; Dropout Voltage(V): 1.1; Iout(mA): 800; Isupply(mA): 5; Number of Outputs: 1; Output Voltage: 3.3 V; PSRR(dB): 75; Vin Max(V): 15; Vin Min(V): 2.45; DatasheetVersion: Rev. D; PackageVersion: Rev. F, 05/2012; PackageReference: M-3; PackageDescription: 3-Pin Plastic DD Pak, Body 10.2235 x 8.89 mm, Pitch 2.54 mm; Supplier 1: Digi-Key; Supplier Part Number 1: LT1117CM-3.3#PBF-ND; Supplier 2: Newark; Supplier Part Number 2: 57M1782; RoHS: TRUE; Mounting Technology: Surface Mount; ComponentLink1Description: Manufacturer URL; ComponentLink1URL: http://www.linear.com/; ComponentLink2Description: Datasheet; ComponentLink2URL: http://cds.linear.com/docs/en/datasheet/1117fd.pdf; ComponentLink3Description: Package Specification; ComponentLink3URL: http://cds.linear.com/docs/en/packaging/05081460_F_M.pdf
footprint LT-M-3_N (DPAK, 3-Leads, Body 10.55x9.4mm, Pitch 2.54mm, IPC Medium Density)
footprint LT-M-3_L (DPAK, 3-Leads, Body 10.55x9.4mm, Pitch 2.54mm, IPC High Density)
footprint LT-M-3_M (DPAK, 3-Leads, Body 10.55x9.4mm, Pitch 2.54mm, IPC Low Density)
pins: 1 GND (power), 2 OUT (power), 3 IN (power), 4 VOUT (power)

## LT1117CM-3.3#TR
designator U?
0.8 A Low Dropout Positive Regulator, 2.45 to 15 V Vin, 3.3 V Vout, 3-pin DPAK (M-3), 0 to 125 degC, Tape and Reel; Manufacturer: Linear Technology; PartNumber: LT1117CM-3.3#TR; Discrete Pass Element: no; Dropout Voltage(V): 1.1; Iout(mA): 800; Isupply(mA): 5; Number of Outputs: 1; Output Voltage: 3.3 V; PSRR(dB): 75; Vin Max(V): 15; Vin Min(V): 2.45; DatasheetVersion: Rev. D; PackageVersion: Rev. F, 05/2012; PackageReference: M-3; PackageDescription: 3-Pin Plastic DD Pak, Body 10.2235 x 8.89 mm, Pitch 2.54 mm; Supplier 1: Digi-Key; Supplier Part Number 1: LT1117CM-3.3#TR-ND; Packing: Tape and Reel; RoHS: FALSE; Mounting Technology: Surface Mount; ComponentLink1Description: Manufacturer URL; ComponentLink1URL: http://www.linear.com/; ComponentLink2Description: Datasheet; ComponentLink2URL: http://cds.linear.com/docs/en/datasheet/1117fd.pdf; ComponentLink3Description: Package Specification; ComponentLink3URL: http://cds.linear.com/docs/en/packaging/05081460_F_M.pdf
footprint LT-M-3_N (DPAK, 3-Leads, Body 10.55x9.4mm, Pitch 2.54mm, IPC Medium Density)
footprint LT-M-3_L (DPAK, 3-Leads, Body 10.55x9.4mm, Pitch 2.54mm, IPC High Density)
footprint LT-M-3_M (DPAK, 3-Leads, Body 10.55x9.4mm, Pitch 2.54mm, IPC Low Density)
pins: 1 GND (power), 2 OUT (power), 3 IN (power), 4 VOUT (power)

## LT1117CM-3.3#TRPBF
designator U?
0.8 A Low Dropout Positive Regulator, 2.45 to 15 V Vin, 3.3 V Vout, 3-pin DPAK (M-3), 0 to 125 degC, Pb-Free, Tape and Reel; Manufacturer: Linear Technology; PartNumber: LT1117CM-3.3#TRPBF; Discrete Pass Element: no; Dropout Voltage(V): 1.1; Iout(mA): 800; Isupply(mA): 5; Number of Outputs: 1; Output Voltage: 3.3 V; PSRR(dB): 75; Vin Max(V): 15; Vin Min(V): 2.45; DatasheetVersion: Rev. D; PackageVersion: Rev. F, 05/2012; PackageReference: M-3; PackageDescription: 3-Pin Plastic DD Pak, Body 10.2235 x 8.89 mm, Pitch 2.54 mm; Supplier 1: Digi-Key; Supplier Part Number 1: LT1117CM-3.3#TRPBF-ND; Supplier 2: Newark; Supplier Part Number 2: 57M1784; Packing: Tape and Reel; RoHS: TRUE; Mounting Technology: Surface Mount; ComponentLink1Description: Manufacturer URL; ComponentLink1URL: http://www.linear.com/; ComponentLink2Description: Datasheet; ComponentLink2URL: http://cds.linear.com/docs/en/datasheet/1117fd.pdf; ComponentLink3Description: Package Specification; ComponentLink3URL: http://cds.linear.com/docs/en/packaging/05081460_F_M.pdf
footprint LT-M-3_N (DPAK, 3-Leads, Body 10.55x9.4mm, Pitch 2.54mm, IPC Medium Density)
footprint LT-M-3_L (DPAK, 3-Leads, Body 10.55x9.4mm, Pitch 2.54mm, IPC High Density)
footprint LT-M-3_M (DPAK, 3-Leads, Body 10.55x9.4mm, Pitch 2.54mm, IPC Low Density)
pins: 1 GND (power), 2 OUT (power), 3 IN (power), 4 VOUT (power)

## LT1117CM-5
designator U?
0.8 A Low Dropout Positive Regulator, 2.45 to 15 V Vin, 5 V Vout, 3-pin DPAK (M-3), 0 to 125 degC; Manufacturer: Linear Technology; PartNumber: LT1117CM-5; Discrete Pass Element: no; Dropout Voltage(V): 1.1; Iout(mA): 800; Isupply(mA): 5; Number of Outputs: 1; Output Voltage: 5 V; PSRR(dB): 75; Vin Max(V): 15; Vin Min(V): 2.45; DatasheetVersion: Rev. D; PackageVersion: Rev. F, 05/2012; PackageReference: M-3; PackageDescription: 3-Pin Plastic DD Pak, Body 10.2235 x 8.89 mm, Pitch 2.54 mm; Supplier 1: Digi-Key; Supplier Part Number 1: LT1117CM-5-ND; Supplier 2: Newark; Supplier Part Number 2: 57M1785; RoHS: FALSE; Mounting Technology: Surface Mount; ComponentLink1Description: Manufacturer URL; ComponentLink1URL: http://www.linear.com/; ComponentLink2Description: Datasheet; ComponentLink2URL: http://cds.linear.com/docs/en/datasheet/1117fd.pdf; ComponentLink3Description: Package Specification; ComponentLink3URL: http://cds.linear.com/docs/en/packaging/05081460_F_M.pdf
footprint LT-M-3_N (DPAK, 3-Leads, Body 10.55x9.4mm, Pitch 2.54mm, IPC Medium Density)
footprint LT-M-3_L (DPAK, 3-Leads, Body 10.55x9.4mm, Pitch 2.54mm, IPC High Density)
footprint LT-M-3_M (DPAK, 3-Leads, Body 10.55x9.4mm, Pitch 2.54mm, IPC Low Density)
pins: 1 GND (power), 2 OUT (power), 3 IN (power), 4 VOUT (power)

## LT1117CM-5#PBF
designator U?
0.8 A Low Dropout Positive Regulator, 2.45 to 15 V Vin, 5 V Vout, 3-pin DPAK (M-3), 0 to 125 degC, Pb-Free; Manufacturer: Linear Technology; PartNumber: LT1117CM-5#PBF; Discrete Pass Element: no; Dropout Voltage(V): 1.1; Iout(mA): 800; Isupply(mA): 5; Number of Outputs: 1; Output Voltage: 5 V; PSRR(dB): 75; Vin Max(V): 15; Vin Min(V): 2.45; DatasheetVersion: Rev. D; PackageVersion: Rev. F, 05/2012; PackageReference: M-3; PackageDescription: 3-Pin Plastic DD Pak, Body 10.2235 x 8.89 mm, Pitch 2.54 mm; Supplier 1: Digi-Key; Supplier Part Number 1: LT1117CM-5#PBF-ND; Supplier 2: Newark; Supplier Part Number 2: 57M1786; RoHS: TRUE; Mounting Technology: Surface Mount; ComponentLink1Description: Manufacturer URL; ComponentLink1URL: http://www.linear.com/; ComponentLink2Description: Datasheet; ComponentLink2URL: http://cds.linear.com/docs/en/datasheet/1117fd.pdf; ComponentLink3Description: Package Specification; ComponentLink3URL: http://cds.linear.com/docs/en/packaging/05081460_F_M.pdf
footprint LT-M-3_N (DPAK, 3-Leads, Body 10.55x9.4mm, Pitch 2.54mm, IPC Medium Density)
footprint LT-M-3_L (DPAK, 3-Leads, Body 10.55x9.4mm, Pitch 2.54mm, IPC High Density)
footprint LT-M-3_M (DPAK, 3-Leads, Body 10.55x9.4mm, Pitch 2.54mm, IPC Low Density)
pins: 1 GND (power), 2 OUT (power), 3 IN (power), 4 VOUT (power)

## LT1117CM-5#TR
designator U?
0.8 A Low Dropout Positive Regulator, 2.45 to 15 V Vin, 5 V Vout, 3-pin DPAK (M-3), 0 to 125 degC, Tape and Reel; Manufacturer: Linear Technology; PartNumber: LT1117CM-5#TR; Discrete Pass Element: no; Dropout Voltage(V): 1.1; Iout(mA): 800; Isupply(mA): 5; Number of Outputs: 1; Output Voltage: 5 V; PSRR(dB): 75; Vin Max(V): 15; Vin Min(V): 2.45; DatasheetVersion: Rev. D; PackageVersion: Rev. F, 05/2012; PackageReference: M-3; PackageDescription: 3-Pin Plastic DD Pak, Body 10.2235 x 8.89 mm, Pitch 2.54 mm; Supplier 1: Digi-Key; Supplier Part Number 1: LT1117CM-5#TR-ND; Packing: Tape and Reel; RoHS: FALSE; Mounting Technology: Surface Mount; ComponentLink1Description: Manufacturer URL; ComponentLink1URL: http://www.linear.com/; ComponentLink2Description: Datasheet; ComponentLink2URL: http://cds.linear.com/docs/en/datasheet/1117fd.pdf; ComponentLink3Description: Package Specification; ComponentLink3URL: http://cds.linear.com/docs/en/packaging/05081460_F_M.pdf
footprint LT-M-3_N (DPAK, 3-Leads, Body 10.55x9.4mm, Pitch 2.54mm, IPC Medium Density)
footprint LT-M-3_L (DPAK, 3-Leads, Body 10.55x9.4mm, Pitch 2.54mm, IPC High Density)
footprint LT-M-3_M (DPAK, 3-Leads, Body 10.55x9.4mm, Pitch 2.54mm, IPC Low Density)
pins: 1 GND (power), 2 OUT (power), 3 IN (power), 4 VOUT (power)

## LT1117CM-5#TRPBF
designator U?
0.8 A Low Dropout Positive Regulator, 2.45 to 15 V Vin, 5 V Vout, 3-pin DPAK (M-3), 0 to 125 degC, Pb-Free, Tape and Reel; Manufacturer: Linear Technology; PartNumber: LT1117CM-5#TRPBF; Discrete Pass Element: no; Dropout Voltage(V): 1.1; Iout(mA): 800; Isupply(mA): 5; Number of Outputs: 1; Output Voltage: 5 V; PSRR(dB): 75; Vin Max(V): 15; Vin Min(V): 2.45; DatasheetVersion: Rev. D; PackageVersion: Rev. F, 05/2012; PackageReference: M-3; PackageDescription: 3-Pin Plastic DD Pak, Body 10.2235 x 8.89 mm, Pitch 2.54 mm; Supplier 1: Digi-Key; Supplier Part Number 1: LT1117CM-5#TRPBF-ND; Supplier 2: Newark; Supplier Part Number 2: 57M1788; Packing: Tape and Reel; RoHS: TRUE; Mounting Technology: Surface Mount; ComponentLink1Description: Manufacturer URL; ComponentLink1URL: http://www.linear.com/; ComponentLink2Description: Datasheet; ComponentLink2URL: http://cds.linear.com/docs/en/datasheet/1117fd.pdf; ComponentLink3Description: Package Specification; ComponentLink3URL: http://cds.linear.com/docs/en/packaging/05081460_F_M.pdf
footprint LT-M-3_N (DPAK, 3-Leads, Body 10.55x9.4mm, Pitch 2.54mm, IPC Medium Density)
footprint LT-M-3_L (DPAK, 3-Leads, Body 10.55x9.4mm, Pitch 2.54mm, IPC High Density)
footprint LT-M-3_M (DPAK, 3-Leads, Body 10.55x9.4mm, Pitch 2.54mm, IPC Low Density)
pins: 1 GND (power), 2 OUT (power), 3 IN (power), 4 VOUT (power)

## LT1117CST
designator U?
0.8 A Low Dropout Positive Regulator, 2.45 to 15 V Vin, Adjustable Vout, 3-pin SOT223 (ST-3), 0 to 125 degC; Manufacturer: Linear Technology; PartNumber: LT1117CST; Discrete Pass Element: no; Dropout Voltage(V): 1.1; Iout(mA): 800; Number of Outputs: 1; Output Voltage: Adj; PSRR(dB): 75; Vin Max(V): 15; Vin Min(V): 2.45; DatasheetVersion: Rev. D; PackageVersion: Jun-10; PackageReference: ST-3; PackageDescription: 3-Pin Plastic SOT-223, 3.505 x 6.505 mm Body, Pitch 2.3 mm; Supplier 1: Digi-Key; Supplier Part Number 1: LT1117CST-ND; Supplier 2: Newark; Supplier Part Number 2: 57M1792; RoHS: FALSE; Mounting Technology: Surface Mount; ComponentLink1Description: Manufacturer URL; ComponentLink1URL: http://www.linear.com/; ComponentLink2Description: Datasheet; ComponentLink2URL: http://cds.linear.com/docs/en/datasheet/1117fd.pdf; ComponentLink3Description: Package Specification; ComponentLink3URL: http://cds.linear.com/docs/en/packaging/SOT_3_05-08-1630.pdf
footprint LT-ST-3-SOT-223_N (SOT223, 4-Leads, Body 6.505x3.505mm, Pitch 2.3mm, IPC Medium Density)
footprint LT-ST-3-SOT-223_L (SOT223, 4-Leads, Body 6.505x3.505mm, Pitch 2.3mm, IPC High Density)
footprint LT-ST-3-SOT-223_M (SOT223, 4-Leads, Body 6.505x3.505mm, Pitch 2.3mm, IPC Low Density)
pins: 1 ADJ (in), 2 OUT (power), 3 IN (power), 4 VOUT (power)

## LT1117CST#PBF
designator U?
0.8 A Low Dropout Positive Regulator, 2.45 to 15 V Vin, Adjustable Vout, 3-pin SOT223 (ST-3), 0 to 125 degC, Pb-Free; Manufacturer: Linear Technology; PartNumber: LT1117CST#PBF; Discrete Pass Element: no; Dropout Voltage(V): 1.1; Iout(mA): 800; Number of Outputs: 1; Output Voltage: Adj; PSRR(dB): 75; Vin Max(V): 15; Vin Min(V): 2.45; DatasheetVersion: Rev. D; PackageVersion: Jun-10; PackageReference: ST-3; PackageDescription: 3-Pin Plastic SOT-223, 3.505 x 6.505 mm Body, Pitch 2.3 mm; Supplier 1: Digi-Key; Supplier Part Number 1: LT1117CST#PBF-ND; Supplier 2: Farnell; Supplier Part Number 2: 1663354; Supplier 3: Newark; Supplier Part Number 3: 57M1805; RoHS: TRUE; Mounting Technology: Surface Mount; ComponentLink1Description: Manufacturer URL; ComponentLink1URL: http://www.linear.com/; ComponentLink2Description: Datasheet; ComponentLink2URL: http://cds.linear.com/docs/en/datasheet/1117fd.pdf; ComponentLink3Description: Package Specification; ComponentLink3URL: http://cds.linear.com/docs/en/packaging/SOT_3_05-08-1630.pdf
footprint LT-ST-3-SOT-223_N (SOT223, 4-Leads, Body 6.505x3.505mm, Pitch 2.3mm, IPC Medium Density)
footprint LT-ST-3-SOT-223_L (SOT223, 4-Leads, Body 6.505x3.505mm, Pitch 2.3mm, IPC High Density)
footprint LT-ST-3-SOT-223_M (SOT223, 4-Leads, Body 6.505x3.505mm, Pitch 2.3mm, IPC Low Density)
pins: 1 ADJ (in), 2 OUT (power), 3 IN (power), 4 VOUT (power)

## LT1117CST#TR
designator U?
0.8 A Low Dropout Positive Regulator, 2.45 to 15 V Vin, Adjustable Vout, 3-pin SOT223 (ST-3), 0 to 125 degC, Tape and Reel; Manufacturer: Linear Technology; PartNumber: LT1117CST#TR; Discrete Pass Element: no; Dropout Voltage(V): 1.1; Iout(mA): 800; Number of Outputs: 1; Output Voltage: Adj; PSRR(dB): 75; Vin Max(V): 15; Vin Min(V): 2.45; DatasheetVersion: Rev. D; PackageVersion: Jun-10; PackageReference: ST-3; PackageDescription: 3-Pin Plastic SOT-223, 3.505 x 6.505 mm Body, Pitch 2.3 mm; Supplier 1: Digi-Key; Supplier Part Number 1: LT1117CST#TR-ND; Supplier 2: Newark; Supplier Part Number 2: 57M1806; Packing: Tape and Reel; RoHS: FALSE; Mounting Technology: Surface Mount; ComponentLink1Description: Manufacturer URL; ComponentLink1URL: http://www.linear.com/; ComponentLink2Description: Datasheet; ComponentLink2URL: http://cds.linear.com/docs/en/datasheet/1117fd.pdf; ComponentLink3Description: Package Specification; ComponentLink3URL: http://cds.linear.com/docs/en/packaging/SOT_3_05-08-1630.pdf
footprint LT-ST-3-SOT-223_N (SOT223, 4-Leads, Body 6.505x3.505mm, Pitch 2.3mm, IPC Medium Density)
footprint LT-ST-3-SOT-223_L (SOT223, 4-Leads, Body 6.505x3.505mm, Pitch 2.3mm, IPC High Density)
footprint LT-ST-3-SOT-223_M (SOT223, 4-Leads, Body 6.505x3.505mm, Pitch 2.3mm, IPC Low Density)
pins: 1 ADJ (in), 2 OUT (power), 3 IN (power), 4 VOUT (power)

## LT1117CST#TRPBF
designator U?
0.8 A Low Dropout Positive Regulator, 2.45 to 15 V Vin, Adjustable Vout, 3-pin SOT223 (ST-3), 0 to 125 degC, Pb-Free, Tape and Reel; Manufacturer: Linear Technology; PartNumber: LT1117CST#TRPBF; Discrete Pass Element: no; Dropout Voltage(V): 1.1; Iout(mA): 800; Number of Outputs: 1; Output Voltage: Adj; PSRR(dB): 75; Vin Max(V): 15; Vin Min(V): 2.45; DatasheetVersion: Rev. D; PackageVersion: Jun-10; PackageReference: ST-3; PackageDescription: 3-Pin Plastic SOT-223, 3.505 x 6.505 mm Body, Pitch 2.3 mm; Supplier 1: Digi-Key; Supplier Part Number 1: LT1117CST#TRPBF-ND; Supplier 2: Newark; Supplier Part Number 2: 57M1807; Packing: Tape and Reel; RoHS: TRUE; Mounting Technology: Surface Mount; ComponentLink1Description: Manufacturer URL; ComponentLink1URL: http://www.linear.com/; ComponentLink2Description: Datasheet; ComponentLink2URL: http://cds.linear.com/docs/en/datasheet/1117fd.pdf; ComponentLink3Description: Package Specification; ComponentLink3URL: http://cds.linear.com/docs/en/packaging/SOT_3_05-08-1630.pdf
footprint LT-ST-3-SOT-223_N (SOT223, 4-Leads, Body 6.505x3.505mm, Pitch 2.3mm, IPC Medium Density)
footprint LT-ST-3-SOT-223_L (SOT223, 4-Leads, Body 6.505x3.505mm, Pitch 2.3mm, IPC High Density)
footprint LT-ST-3-SOT-223_M (SOT223, 4-Leads, Body 6.505x3.505mm, Pitch 2.3mm, IPC Low Density)
pins: 1 ADJ (in), 2 OUT (power), 3 IN (power), 4 VOUT (power)

## LT1117CST-2.85
designator U?
0.8 A Low Dropout Positive Regulator, 2.45 to 15 V Vin, 2.85 V Vout, 3-pin SOT223 (ST-3), 0 to 125 degC; Manufacturer: Linear Technology; PartNumber: LT1117CST-2.85; Discrete Pass Element: no; Dropout Voltage(V): 1.1; Iout(mA): 800; Isupply(mA): 5; Number of Outputs: 1; Output Voltage: 2.85 V; PSRR(dB): 75; Vin Max(V): 15; Vin Min(V): 2.45; DatasheetVersion: Rev. D; PackageVersion: Jun-10; PackageReference: ST-3; PackageDescription: 3-Pin Plastic SOT-223, 3.505 x 6.505 mm Body, Pitch 2.3 mm; Supplier 1: Digi-Key; Supplier Part Number 1: LT1117CST-2.85-ND; RoHS: FALSE; Mounting Technology: Surface Mount; ComponentLink1Description: Manufacturer URL; ComponentLink1URL: http://www.linear.com/; ComponentLink2Description: Datasheet; ComponentLink2URL: http://cds.linear.com/docs/en/datasheet/1117fd.pdf; ComponentLink3Description: Package Specification; ComponentLink3URL: http://cds.linear.com/docs/en/packaging/SOT_3_05-08-1630.pdf
footprint LT-ST-3-SOT-223_N (SOT223, 4-Leads, Body 6.505x3.505mm, Pitch 2.3mm, IPC Medium Density)
footprint LT-ST-3-SOT-223_L (SOT223, 4-Leads, Body 6.505x3.505mm, Pitch 2.3mm, IPC High Density)
footprint LT-ST-3-SOT-223_M (SOT223, 4-Leads, Body 6.505x3.505mm, Pitch 2.3mm, IPC Low Density)
pins: 1 GND (power), 2 OUT (power), 3 IN (power), 4 VOUT (power)

## LT1117CST-2.85#PBF
designator U?
0.8 A Low Dropout Positive Regulator, 2.45 to 15 V Vin, 2.85 V Vout, 3-pin SOT223 (ST-3), 0 to 125 degC, Pb-Free; Manufacturer: Linear Technology; PartNumber: LT1117CST-2.85#PBF; Discrete Pass Element: no; Dropout Voltage(V): 1.1; Iout(mA): 800; Isupply(mA): 5; Number of Outputs: 1; Output Voltage: 2.85 V; PSRR(dB): 75; Vin Max(V): 15; Vin Min(V): 2.45; DatasheetVersion: Rev. D; PackageVersion: Jun-10; PackageReference: ST-3; PackageDescription: 3-Pin Plastic SOT-223, 3.505 x 6.505 mm Body, Pitch 2.3 mm; Supplier 1: Digi-Key; Supplier Part Number 1: LT1117CST-2.85#PBF-ND; RoHS: TRUE; Mounting Technology: Surface Mount; ComponentLink1Description: Manufacturer URL; ComponentLink1URL: http://www.linear.com/; ComponentLink2Description: Datasheet; ComponentLink2URL: http://cds.linear.com/docs/en/datasheet/1117fd.pdf; ComponentLink3Description: Package Specification; ComponentLink3URL: http://cds.linear.com/docs/en/packaging/SOT_3_05-08-1630.pdf
footprint LT-ST-3-SOT-223_N (SOT223, 4-Leads, Body 6.505x3.505mm, Pitch 2.3mm, IPC Medium Density)
footprint LT-ST-3-SOT-223_L (SOT223, 4-Leads, Body 6.505x3.505mm, Pitch 2.3mm, IPC High Density)
footprint LT-ST-3-SOT-223_M (SOT223, 4-Leads, Body 6.505x3.505mm, Pitch 2.3mm, IPC Low Density)
pins: 1 GND (power), 2 OUT (power), 3 IN (power), 4 VOUT (power)

## LT1117CST-2.85#TR
designator U?
0.8 A Low Dropout Positive Regulator, 2.45 to 15 V Vin, 2.85 V Vout, 3-pin SOT223 (ST-3), 0 to 125 degC, Tape and Reel; Manufacturer: Linear Technology; PartNumber: LT1117CST-2.85#TR; Discrete Pass Element: no; Dropout Voltage(V): 1.1; Iout(mA): 800; Isupply(mA): 5; Number of Outputs: 1; Output Voltage: 2.85 V; PSRR(dB): 75; Vin Max(V): 15; Vin Min(V): 2.45; DatasheetVersion: Rev. D; PackageVersion: Jun-10; PackageReference: ST-3; PackageDescription: 3-Pin Plastic SOT-223, 3.505 x 6.505 mm Body, Pitch 2.3 mm; Supplier 1: Digi-Key; Supplier Part Number 1: LT1117CST-2.85#TR-ND; Packing: Tape and Reel; RoHS: FALSE; Mounting Technology: Surface Mount; ComponentLink1Description: Manufacturer URL; ComponentLink1URL: http://www.linear.com/; ComponentLink2Description: Datasheet; ComponentLink2URL: http://cds.linear.com/docs/en/datasheet/1117fd.pdf; ComponentLink3Description: Package Specification; ComponentLink3URL: http://cds.linear.com/docs/en/packaging/SOT_3_05-08-1630.pdf
footprint LT-ST-3-SOT-223_N (SOT223, 4-Leads, Body 6.505x3.505mm, Pitch 2.3mm, IPC Medium Density)
footprint LT-ST-3-SOT-223_L (SOT223, 4-Leads, Body 6.505x3.505mm, Pitch 2.3mm, IPC High Density)
footprint LT-ST-3-SOT-223_M (SOT223, 4-Leads, Body 6.505x3.505mm, Pitch 2.3mm, IPC Low Density)
pins: 1 GND (power), 2 OUT (power), 3 IN (power), 4 VOUT (power)

## LT1117CST-2.85#TRPBF
designator U?
0.8 A Low Dropout Positive Regulator, 2.45 to 15 V Vin, 2.85 V Vout, 3-pin SOT223 (ST-3), 0 to 125 degC, Pb-Free, Tape and Reel; Manufacturer: Linear Technology; PartNumber: LT1117CST-2.85#TRPBF; Discrete Pass Element: no; Dropout Voltage(V): 1.1; Iout(mA): 800; Isupply(mA): 5; Number of Outputs: 1; Output Voltage: 2.85 V; PSRR(dB): 75; Vin Max(V): 15; Vin Min(V): 2.45; DatasheetVersion: Rev. D; PackageVersion: Jun-10; PackageReference: ST-3; PackageDescription: 3-Pin Plastic SOT-223, 3.505 x 6.505 mm Body, Pitch 2.3 mm; Supplier 1: Digi-Key; Supplier Part Number 1: LT1117CST-2.85#TRPBF-ND; Packing: Tape and Reel; RoHS: TRUE; Mounting Technology: Surface Mount; ComponentLink1Description: Manufacturer URL; ComponentLink1URL: http://www.linear.com/; ComponentLink2Description: Datasheet; ComponentLink2URL: http://cds.linear.com/docs/en/datasheet/1117fd.pdf; ComponentLink3Description: Package Specification; ComponentLink3URL: http://cds.linear.com/docs/en/packaging/SOT_3_05-08-1630.pdf
footprint LT-ST-3-SOT-223_N (SOT223, 4-Leads, Body 6.505x3.505mm, Pitch 2.3mm, IPC Medium Density)
footprint LT-ST-3-SOT-223_L (SOT223, 4-Leads, Body 6.505x3.505mm, Pitch 2.3mm, IPC High Density)
footprint LT-ST-3-SOT-223_M (SOT223, 4-Leads, Body 6.505x3.505mm, Pitch 2.3mm, IPC Low Density)
pins: 1 GND (power), 2 OUT (power), 3 IN (power), 4 VOUT (power)

## LT1117CST-3.3
designator U?
0.8 A Low Dropout Positive Regulator, 2.45 to 15 V Vin, 3.3 V Vout, 3-pin SOT223 (ST-3), 0 to 125 degC; Manufacturer: Linear Technology; PartNumber: LT1117CST-3.3; Discrete Pass Element: no; Dropout Voltage(V): 1.1; Iout(mA): 800; Isupply(mA): 5; Number of Outputs: 1; Output Voltage: 3.3 V; PSRR(dB): 75; Vin Max(V): 15; Vin Min(V): 2.45; DatasheetVersion: Rev. D; PackageVersion: Jun-10; PackageReference: ST-3; PackageDescription: 3-Pin Plastic SOT-223, 3.505 x 6.505 mm Body, Pitch 2.3 mm; Supplier 1: Digi-Key; Supplier Part Number 1: LT1117CST-3.3-ND; Supplier 2: Newark; Supplier Part Number 2: 57M1797; RoHS: FALSE; Mounting Technology: Surface Mount; ComponentLink1Description: Manufacturer URL; ComponentLink1URL: http://www.linear.com/; ComponentLink2Description: Datasheet; ComponentLink2URL: http://cds.linear.com/docs/en/datasheet/1117fd.pdf; ComponentLink3Description: Package Specification; ComponentLink3URL: http://cds.linear.com/docs/en/packaging/SOT_3_05-08-1630.pdf
footprint LT-ST-3-SOT-223_N (SOT223, 4-Leads, Body 6.505x3.505mm, Pitch 2.3mm, IPC Medium Density)
footprint LT-ST-3-SOT-223_L (SOT223, 4-Leads, Body 6.505x3.505mm, Pitch 2.3mm, IPC High Density)
footprint LT-ST-3-SOT-223_M (SOT223, 4-Leads, Body 6.505x3.505mm, Pitch 2.3mm, IPC Low Density)
pins: 1 GND (power), 2 OUT (power), 3 IN (power), 4 VOUT (power)

## LT1117CST-3.3#PBF
designator U?
0.8 A Low Dropout Positive Regulator, 2.45 to 15 V Vin, 3.3 V Vout, 3-pin SOT223 (ST-3), 0 to 125 degC, Pb-Free; Manufacturer: Linear Technology; PartNumber: LT1117CST-3.3#PBF; Discrete Pass Element: no; Dropout Voltage(V): 1.1; Iout(mA): 800; Isupply(mA): 5; Number of Outputs: 1; Output Voltage: 3.3 V; PSRR(dB): 75; Vin Max(V): 15; Vin Min(V): 2.45; DatasheetVersion: Rev. D; PackageVersion: Jun-10; PackageReference: ST-3; PackageDescription: 3-Pin Plastic SOT-223, 3.505 x 6.505 mm Body, Pitch 2.3 mm; Supplier 1: Digi-Key; Supplier Part Number 1: LT1117CST-3.3#PBF-ND; Supplier 2: Farnell; Supplier Part Number 2: 1663356; Supplier 3: Newark; Supplier Part Number 3: 57M1798; RoHS: TRUE; Mounting Technology: Surface Mount; ComponentLink1Description: Manufacturer URL; ComponentLink1URL: http://www.linear.com/; ComponentLink2Description: Datasheet; ComponentLink2URL: http://cds.linear.com/docs/en/datasheet/1117fd.pdf; ComponentLink3Description: Package Specification; ComponentLink3URL: http://cds.linear.com/docs/en/packaging/SOT_3_05-08-1630.pdf
footprint LT-ST-3-SOT-223_N (SOT223, 4-Leads, Body 6.505x3.505mm, Pitch 2.3mm, IPC Medium Density)
footprint LT-ST-3-SOT-223_L (SOT223, 4-Leads, Body 6.505x3.505mm, Pitch 2.3mm, IPC High Density)
footprint LT-ST-3-SOT-223_M (SOT223, 4-Leads, Body 6.505x3.505mm, Pitch 2.3mm, IPC Low Density)
pins: 1 GND (power), 2 OUT (power), 3 IN (power), 4 VOUT (power)